# Altium schematic symbol library Tactile_SPST_2Pin.Schlib: 1 symbol
Pins are listed as number, name and electrical type; pins without a type are passive.

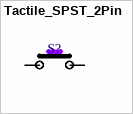
[diagram p0: symbol Tactile_SPST_2Pin]

## Tactile_SPST_2Pin
designator S?
2 Pin SPST Tactile Switch
pins: 1, 2